# Altium schematic symbol library kmilo17pet-NSC_Switcher.SchLib: 2226 symbols (part 36 of 59)
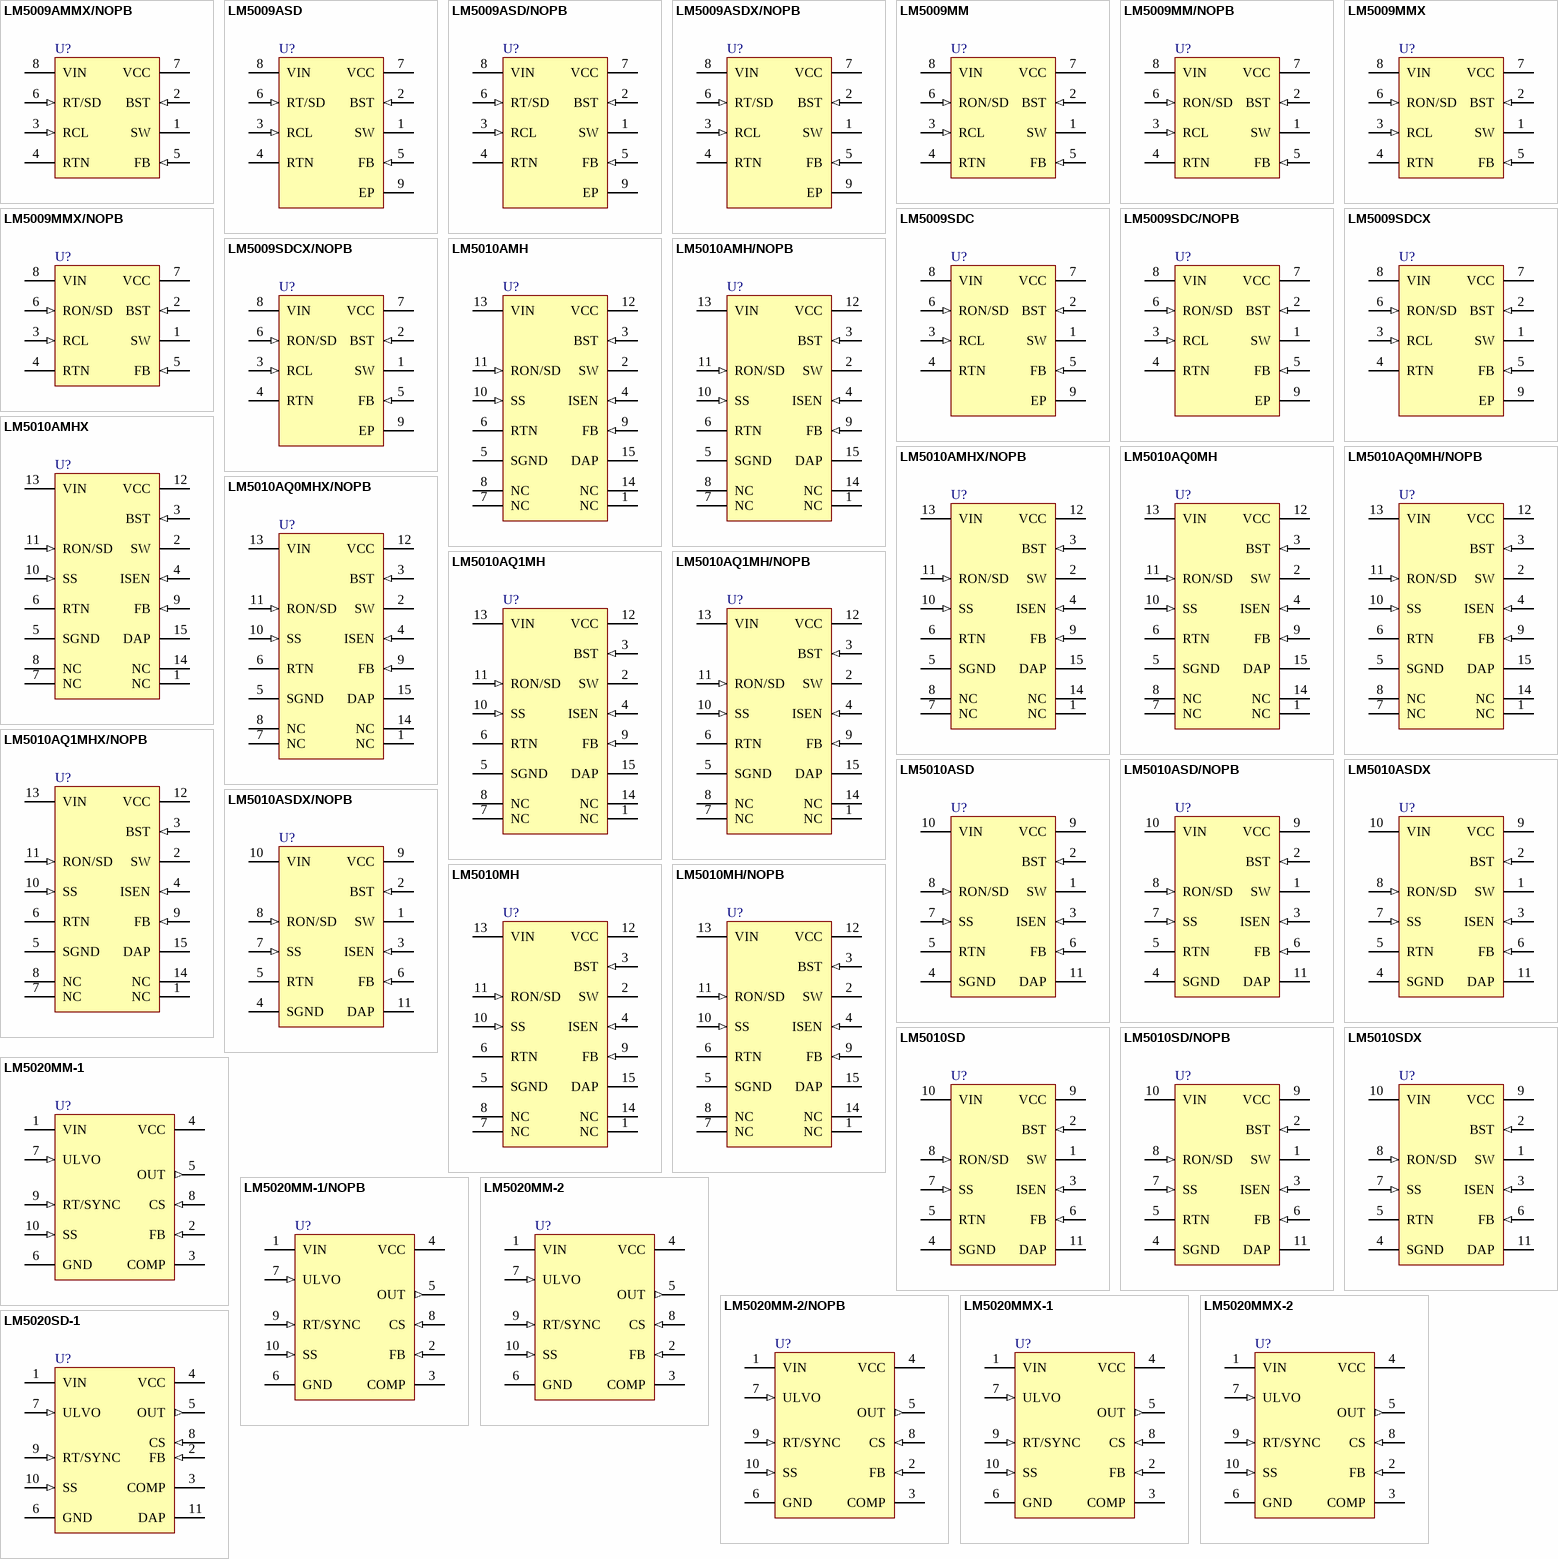
[diagram p104: symbols LM5009AMMX/NOPB to LM5020SD-1]

## LM5010SD/NOPB
designator U?
High Voltage 1A Step Down Switching Regulator, 10-pin LLP, Pb-Free; PartNumber: LM5010SD/NOPB; Manufacturer: National Semiconductor; PackageTopMarking: NS*UZXYTT*L00057B; PowerWise: N; CompType: Switcher; High-Reliability: Y; DatasheetVersion: Feb-2008; PackageVersion: revA, May-2003; PackageReference: SDC10A; PackageDescription: LLP, Plastic, Dual, 4 x 4 x 0.8mm Body, 10 Lead, 0.8mm Pitch, No Pullback; RoHS: Y; PinCount: 10; ComponentLink1Description: Manufacturer URL; ComponentLink1URL: http://www.national.com/; ComponentLink2Description: LM5010 Datasheet; ComponentLink2URL: http://www.national.com/ds/LM/LM5010.pdf; ComponentLink3Description: LM5010 Web Page; ComponentLink3URL: http://www.national.com/pf/LM/LM5010.html; ComponentLink4Description: SDC10A Package Page; ComponentLink4URL: http://www.national.com/packaging/folders/sdc10a.html
footprint SDC10A (SON, 10-Leads, Body 4x4 mm, Pitch 0.8mm, NSC Recommended)
pins: 1 SW (power), 2 BST (in), 3 ISEN (in), 4 SGND (power), 5 RTN (power), 6 FB (in), 7 SS (in), 8 RON/SD (in), 9 VCC (power), 10 VIN (power), 11 DAP (power)

## LM5010SDX
designator U?
High Voltage 1A Step Down Switching Regulator, 10-pin LLP; PartNumber: LM5010SDX; Manufacturer: National Semiconductor; PackageTopMarking: NS*UZXYTT*L00057B; PowerWise: N; CompType: Switcher; High-Reliability: Y; DatasheetVersion: Feb-2008; PackageVersion: revA, May-2003; PackageReference: SDC10A; PackageDescription: LLP, Plastic, Dual, 4 x 4 x 0.8mm Body, 10 Lead, 0.8mm Pitch, No Pullback; RoHS: N; PinCount: 10; ComponentLink1Description: Manufacturer URL; ComponentLink1URL: http://www.national.com/; ComponentLink2Description: LM5010 Datasheet; ComponentLink2URL: http://www.national.com/ds/LM/LM5010.pdf; ComponentLink3Description: LM5010 Web Page; ComponentLink3URL: http://www.national.com/pf/LM/LM5010.html; ComponentLink4Description: SDC10A Package Page; ComponentLink4URL: http://www.national.com/packaging/folders/sdc10a.html
footprint SDC10A (SON, 10-Leads, Body 4x4 mm, Pitch 0.8mm, NSC Recommended)
pins: 1 SW (power), 2 BST (in), 3 ISEN (in), 4 SGND (power), 5 RTN (power), 6 FB (in), 7 SS (in), 8 RON/SD (in), 9 VCC (power), 10 VIN (power), 11 DAP (power)

## LM5020MM-1
designator U?
100V Current Mode PWM Controller, 10-pin MSOP; PartNumber: LM5020MM-1; Manufacturer: National Semiconductor; PackageTopMarking: ZXTT*SBLB; PowerWise: Y; CompType: Switcher; DatasheetVersion: Apr-2006; PackageVersion: revB, Jul-2003; PackageReference: MUB10A; PackageDescription: Mini-SO, Molded, .118 x .118 x .034in Body, 10 Lead, .0197in Pitch; RoHS: N; PinCount: 10; High-Reliability: Y; Code_JEDEC: MO-187-BA; ComponentLink1Description: Manufacturer URL; ComponentLink1URL: http://www.national.com/; ComponentLink2Description: LM5020 Datasheet; ComponentLink2URL: http://www.national.com/ds/LM/LM5020.pdf; ComponentLink3Description: LM5020 Web Page; ComponentLink3URL: http://www.national.com/pf/LM/LM5020.html; ComponentLink4Description: MUB10A Package Page; ComponentLink4URL: http://www.national.com/packaging/folders/mub10a.html
footprint MUB10A_N (TSSOP, 10-Leads, Body 3x3mm, Pitch 0.5mm, IPC Medium Density)
footprint MUB10A_L (TSSOP, 10-Leads, Body 3x3mm, Pitch 0.5mm, IPC High Density)
footprint MUB10A_M (TSSOP, 10-Leads, Body 3x3mm, Pitch 0.5mm, IPC Low Density)
pins: 1 VIN (power), 2 FB (in), 3 COMP, 4 VCC (power), 5 OUT (out), 6 GND (power), 7 ULVO (in), 8 CS (in), 9 RT/SYNC (in), 10 SS (in)

## LM5020MM-1/NOPB
designator U?
100V Current Mode PWM Controller, 10-pin MSOP, Pb-Free; PartNumber: LM5020MM-1/NOPB; Manufacturer: National Semiconductor; PackageTopMarking: ZXTT*SBLB; PowerWise: Y; CompType: Switcher; DatasheetVersion: Apr-2006; PackageVersion: revB, Jul-2003; PackageReference: MUB10A; PackageDescription: Mini-SO, Molded, .118 x .118 x .034in Body, 10 Lead, .0197in Pitch; RoHS: Y; PinCount: 10; High-Reliability: Y; Code_JEDEC: MO-187-BA; ComponentLink1Description: Manufacturer URL; ComponentLink1URL: http://www.national.com/; ComponentLink2Description: LM5020 Datasheet; ComponentLink2URL: http://www.national.com/ds/LM/LM5020.pdf; ComponentLink3Description: LM5020 Web Page; ComponentLink3URL: http://www.national.com/pf/LM/LM5020.html; ComponentLink4Description: MUB10A Package Page; ComponentLink4URL: http://www.national.com/packaging/folders/mub10a.html
footprint MUB10A_N (TSSOP, 10-Leads, Body 3x3mm, Pitch 0.5mm, IPC Medium Density)
footprint MUB10A_L (TSSOP, 10-Leads, Body 3x3mm, Pitch 0.5mm, IPC High Density)
footprint MUB10A_M (TSSOP, 10-Leads, Body 3x3mm, Pitch 0.5mm, IPC Low Density)
pins: 1 VIN (power), 2 FB (in), 3 COMP, 4 VCC (power), 5 OUT (out), 6 GND (power), 7 ULVO (in), 8 CS (in), 9 RT/SYNC (in), 10 SS (in)

## LM5020MM-2
designator U?
100V Current Mode PWM Controller, 10-pin MSOP; PartNumber: LM5020MM-2; Manufacturer: National Semiconductor; PackageTopMarking: ZXTT*SBNB; PowerWise: Y; CompType: Switcher; DatasheetVersion: Apr-2006; PackageVersion: revB, Jul-2003; PackageReference: MUB10A; PackageDescription: Mini-SO, Molded, .118 x .118 x .034in Body, 10 Lead, .0197in Pitch; RoHS: N; PinCount: 10; High-Reliability: Y; Code_JEDEC: MO-187-BA; ComponentLink1Description: Manufacturer URL; ComponentLink1URL: http://www.national.com/; ComponentLink2Description: LM5020 Datasheet; ComponentLink2URL: http://www.national.com/ds/LM/LM5020.pdf; ComponentLink3Description: LM5020 Web Page; ComponentLink3URL: http://www.national.com/pf/LM/LM5020.html; ComponentLink4Description: MUB10A Package Page; ComponentLink4URL: http://www.national.com/packaging/folders/mub10a.html
footprint MUB10A_N (TSSOP, 10-Leads, Body 3x3mm, Pitch 0.5mm, IPC Medium Density)
footprint MUB10A_L (TSSOP, 10-Leads, Body 3x3mm, Pitch 0.5mm, IPC High Density)
footprint MUB10A_M (TSSOP, 10-Leads, Body 3x3mm, Pitch 0.5mm, IPC Low Density)
pins: 1 VIN (power), 2 FB (in), 3 COMP, 4 VCC (power), 5 OUT (out), 6 GND (power), 7 ULVO (in), 8 CS (in), 9 RT/SYNC (in), 10 SS (in)

## LM5020MM-2/NOPB
designator U?
100V Current Mode PWM Controller, 10-pin MSOP, Pb-Free; PartNumber: LM5020MM-2/NOPB; Manufacturer: National Semiconductor; PackageTopMarking: ZXTT*SBNB; PowerWise: Y; CompType: Switcher; DatasheetVersion: Apr-2006; PackageVersion: revB, Jul-2003; PackageReference: MUB10A; PackageDescription: Mini-SO, Molded, .118 x .118 x .034in Body, 10 Lead, .0197in Pitch; RoHS: Y; PinCount: 10; High-Reliability: Y; Code_JEDEC: MO-187-BA; ComponentLink1Description: Manufacturer URL; ComponentLink1URL: http://www.national.com/; ComponentLink2Description: LM5020 Datasheet; ComponentLink2URL: http://www.national.com/ds/LM/LM5020.pdf; ComponentLink3Description: LM5020 Web Page; ComponentLink3URL: http://www.national.com/pf/LM/LM5020.html; ComponentLink4Description: MUB10A Package Page; ComponentLink4URL: http://www.national.com/packaging/folders/mub10a.html
footprint MUB10A_N (TSSOP, 10-Leads, Body 3x3mm, Pitch 0.5mm, IPC Medium Density)
footprint MUB10A_L (TSSOP, 10-Leads, Body 3x3mm, Pitch 0.5mm, IPC High Density)
footprint MUB10A_M (TSSOP, 10-Leads, Body 3x3mm, Pitch 0.5mm, IPC Low Density)
pins: 1 VIN (power), 2 FB (in), 3 COMP, 4 VCC (power), 5 OUT (out), 6 GND (power), 7 ULVO (in), 8 CS (in), 9 RT/SYNC (in), 10 SS (in)

## LM5020MMX-1
designator U?
100V Current Mode PWM Controller, 10-pin MSOP; PartNumber: LM5020MMX-1; Manufacturer: National Semiconductor; PackageTopMarking: ZXTT*SBLB; PowerWise: Y; CompType: Switcher; DatasheetVersion: Apr-2006; PackageVersion: revB, Jul-2003; PackageReference: MUB10A; PackageDescription: Mini-SO, Molded, .118 x .118 x .034in Body, 10 Lead, .0197in Pitch; RoHS: N; PinCount: 10; High-Reliability: Y; Code_JEDEC: MO-187-BA; ComponentLink1Description: Manufacturer URL; ComponentLink1URL: http://www.national.com/; ComponentLink2Description: LM5020 Datasheet; ComponentLink2URL: http://www.national.com/ds/LM/LM5020.pdf; ComponentLink3Description: LM5020 Web Page; ComponentLink3URL: http://www.national.com/pf/LM/LM5020.html; ComponentLink4Description: MUB10A Package Page; ComponentLink4URL: http://www.national.com/packaging/folders/mub10a.html
footprint MUB10A_N (TSSOP, 10-Leads, Body 3x3mm, Pitch 0.5mm, IPC Medium Density)
footprint MUB10A_L (TSSOP, 10-Leads, Body 3x3mm, Pitch 0.5mm, IPC High Density)
footprint MUB10A_M (TSSOP, 10-Leads, Body 3x3mm, Pitch 0.5mm, IPC Low Density)
pins: 1 VIN (power), 2 FB (in), 3 COMP, 4 VCC (power), 5 OUT (out), 6 GND (power), 7 ULVO (in), 8 CS (in), 9 RT/SYNC (in), 10 SS (in)

## LM5020MMX-2
designator U?
100V Current Mode PWM Controller, 10-pin MSOP; PartNumber: LM5020MMX-2; Manufacturer: National Semiconductor; PackageTopMarking: ZXTT*SBNB; PowerWise: Y; CompType: Switcher; DatasheetVersion: Apr-2006; PackageVersion: revB, Jul-2003; PackageReference: MUB10A; PackageDescription: Mini-SO, Molded, .118 x .118 x .034in Body, 10 Lead, .0197in Pitch; RoHS: N; PinCount: 10; High-Reliability: Y; Code_JEDEC: MO-187-BA; ComponentLink1Description: Manufacturer URL; ComponentLink1URL: http://www.national.com/; ComponentLink2Description: LM5020 Datasheet; ComponentLink2URL: http://www.national.com/ds/LM/LM5020.pdf; ComponentLink3Description: LM5020 Web Page; ComponentLink3URL: http://www.national.com/pf/LM/LM5020.html; ComponentLink4Description: MUB10A Package Page; ComponentLink4URL: http://www.national.com/packaging/folders/mub10a.html
footprint MUB10A_N (TSSOP, 10-Leads, Body 3x3mm, Pitch 0.5mm, IPC Medium Density)
footprint MUB10A_L (TSSOP, 10-Leads, Body 3x3mm, Pitch 0.5mm, IPC High Density)
footprint MUB10A_M (TSSOP, 10-Leads, Body 3x3mm, Pitch 0.5mm, IPC Low Density)
pins: 1 VIN (power), 2 FB (in), 3 COMP, 4 VCC (power), 5 OUT (out), 6 GND (power), 7 ULVO (in), 8 CS (in), 9 RT/SYNC (in), 10 SS (in)

## LM5020SD-1
designator U?
100V Current Mode PWM Controller, 10-pin LLP; PartNumber: LM5020SD-1; Manufacturer: National Semiconductor; PackageTopMarking: NS*UZXYTT*5020-1; PowerWise: Y; CompType: Switcher; DatasheetVersion: Apr-2006; PackageVersion: revA, May-2003; PackageReference: SDC10A; PackageDescription: LLP, Plastic, Dual, 4 x 4 x 0.8mm Body, 10 Lead, 0.8mm Pitch, No Pullback; RoHS: N; PinCount: 10; High-Reliability: Y; ComponentLink1Description: Manufacturer URL; ComponentLink1URL: http://www.national.com/; ComponentLink2Description: LM5020 Datasheet; ComponentLink2URL: http://www.national.com/ds/LM/LM5020.pdf; ComponentLink3Description: LM5020 Web Page; ComponentLink3URL: http://www.national.com/pf/LM/LM5020.html; ComponentLink4Description: SDC10A Package Page; ComponentLink4URL: http://www.national.com/packaging/folders/sdc10a.html
footprint SDC10A (SON, 10-Leads, Body 4x4 mm, Pitch 0.8mm, NSC Recommended)
pins: 1 VIN (power), 2 FB (in), 3 COMP, 4 VCC (power), 5 OUT (out), 6 GND (power), 7 ULVO (in), 8 CS (in), 9 RT/SYNC (in), 10 SS (in), 11 DAP (power)

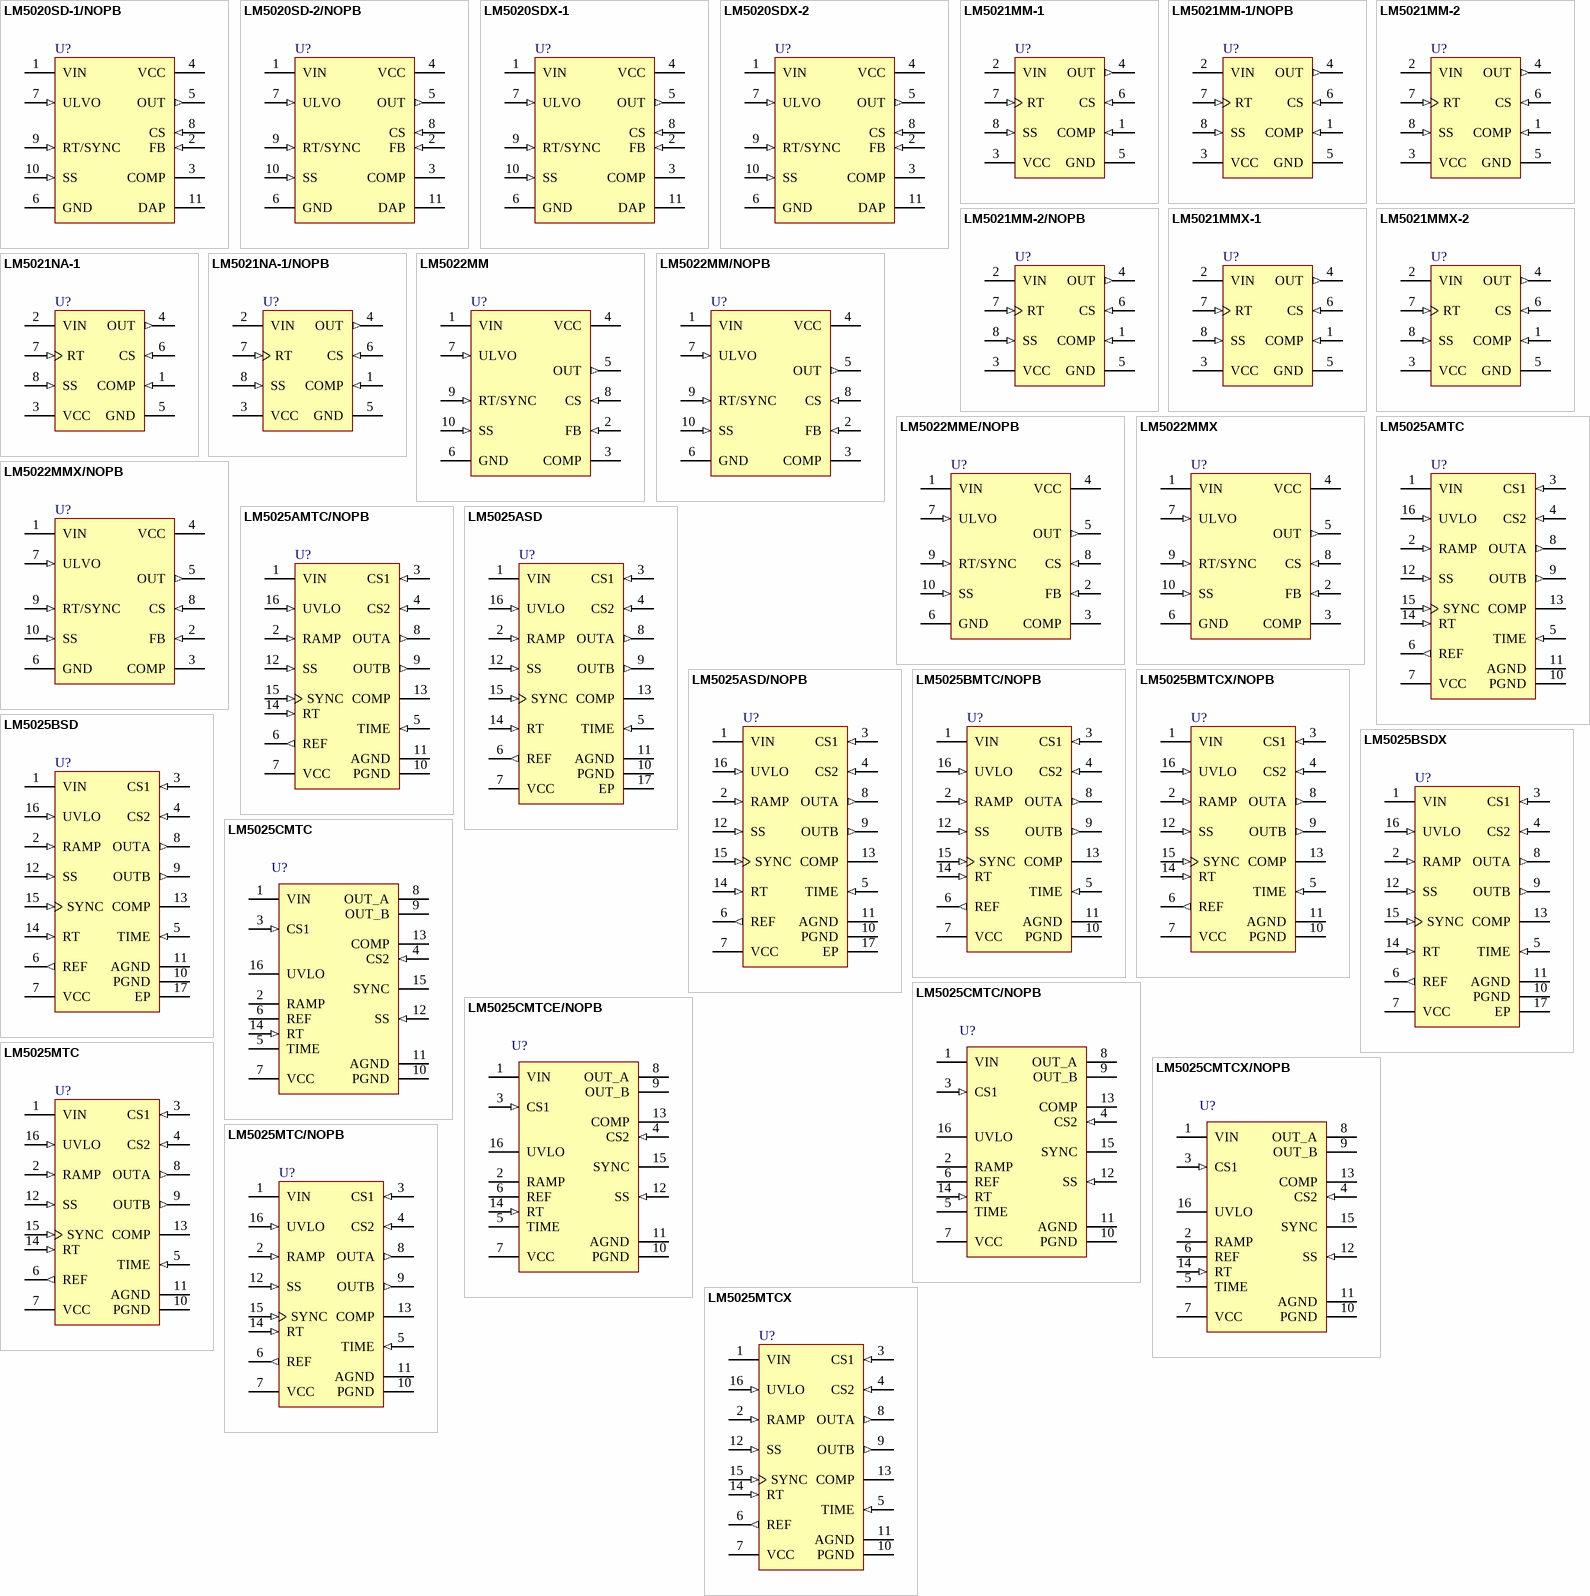
[diagram p39: symbols LM5020SD-1/NOPB to LM5025MTCX]

## LM5020SD-1/NOPB
designator U?
100V Current Mode PWM Controller, 10-pin LLP, Pb-Free; PartNumber: LM5020SD-1/NOPB; Manufacturer: National Semiconductor; PackageTopMarking: NS*UZXYTT*5020-1; PowerWise: Y; CompType: Switcher; DatasheetVersion: Apr-2006; PackageVersion: revA, May-2003; PackageReference: SDC10A; PackageDescription: LLP, Plastic, Dual, 4 x 4 x 0.8mm Body, 10 Lead, 0.8mm Pitch, No Pullback; RoHS: Y; PinCount: 10; High-Reliability: Y; ComponentLink1Description: Manufacturer URL; ComponentLink1URL: http://www.national.com/; ComponentLink2Description: LM5020 Datasheet; ComponentLink2URL: http://www.national.com/ds/LM/LM5020.pdf; ComponentLink3Description: LM5020 Web Page; ComponentLink3URL: http://www.national.com/pf/LM/LM5020.html; ComponentLink4Description: SDC10A Package Page; ComponentLink4URL: http://www.national.com/packaging/folders/sdc10a.html
footprint SDC10A (SON, 10-Leads, Body 4x4 mm, Pitch 0.8mm, NSC Recommended)
pins: 1 VIN (power), 2 FB (in), 3 COMP, 4 VCC (power), 5 OUT (out), 6 GND (power), 7 ULVO (in), 8 CS (in), 9 RT/SYNC (in), 10 SS (in), 11 DAP (power)

## LM5020SD-2/NOPB
designator U?
100V Current Mode PWM Controller, 10-pin LLP, Pb-Free; PartNumber: LM5020SD-2/NOPB; Manufacturer: National Semiconductor; PackageTopMarking: NS*UZXYTT*5020-2; PowerWise: Y; CompType: Switcher; DatasheetVersion: Apr-2006; PackageVersion: revA, May-2003; PackageReference: SDC10A; PackageDescription: LLP, Plastic, Dual, 4 x 4 x 0.8mm Body, 10 Lead, 0.8mm Pitch, No Pullback; RoHS: Y; PinCount: 10; High-Reliability: Y; ComponentLink1Description: Manufacturer URL; ComponentLink1URL: http://www.national.com/; ComponentLink2Description: LM5020 Datasheet; ComponentLink2URL: http://www.national.com/ds/LM/LM5020.pdf; ComponentLink3Description: LM5020 Web Page; ComponentLink3URL: http://www.national.com/pf/LM/LM5020.html; ComponentLink4Description: SDC10A Package Page; ComponentLink4URL: http://www.national.com/packaging/folders/sdc10a.html
footprint SDC10A (SON, 10-Leads, Body 4x4 mm, Pitch 0.8mm, NSC Recommended)
pins: 1 VIN (power), 2 FB (in), 3 COMP, 4 VCC (power), 5 OUT (out), 6 GND (power), 7 ULVO (in), 8 CS (in), 9 RT/SYNC (in), 10 SS (in), 11 DAP (power)

## LM5020SDX-1
designator U?
100V Current Mode PWM Controller, 10-pin LLP; PartNumber: LM5020SDX-1; Manufacturer: National Semiconductor; PackageTopMarking: NS*UZXYTT*5020-1; PowerWise: Y; CompType: Switcher; DatasheetVersion: Apr-2006; PackageVersion: revA, May-2003; PackageReference: SDC10A; PackageDescription: LLP, Plastic, Dual, 4 x 4 x 0.8mm Body, 10 Lead, 0.8mm Pitch, No Pullback; RoHS: N; PinCount: 10; High-Reliability: Y; ComponentLink1Description: Manufacturer URL; ComponentLink1URL: http://www.national.com/; ComponentLink2Description: LM5020 Datasheet; ComponentLink2URL: http://www.national.com/ds/LM/LM5020.pdf; ComponentLink3Description: LM5020 Web Page; ComponentLink3URL: http://www.national.com/pf/LM/LM5020.html; ComponentLink4Description: SDC10A Package Page; ComponentLink4URL: http://www.national.com/packaging/folders/sdc10a.html
footprint SDC10A (SON, 10-Leads, Body 4x4 mm, Pitch 0.8mm, NSC Recommended)
pins: 1 VIN (power), 2 FB (in), 3 COMP, 4 VCC (power), 5 OUT (out), 6 GND (power), 7 ULVO (in), 8 CS (in), 9 RT/SYNC (in), 10 SS (in), 11 DAP (power)

## LM5020SDX-2
designator U?
100V Current Mode PWM Controller, 10-pin LLP; PartNumber: LM5020SDX-2; Manufacturer: National Semiconductor; PackageTopMarking: NS*UZXYTT*5020-2; PowerWise: Y; CompType: Switcher; DatasheetVersion: Apr-2006; PackageVersion: revA, May-2003; PackageReference: SDC10A; PackageDescription: LLP, Plastic, Dual, 4 x 4 x 0.8mm Body, 10 Lead, 0.8mm Pitch, No Pullback; RoHS: N; PinCount: 10; High-Reliability: Y; ComponentLink1Description: Manufacturer URL; ComponentLink1URL: http://www.national.com/; ComponentLink2Description: LM5020 Datasheet; ComponentLink2URL: http://www.national.com/ds/LM/LM5020.pdf; ComponentLink3Description: LM5020 Web Page; ComponentLink3URL: http://www.national.com/pf/LM/LM5020.html; ComponentLink4Description: SDC10A Package Page; ComponentLink4URL: http://www.national.com/packaging/folders/sdc10a.html
footprint SDC10A (SON, 10-Leads, Body 4x4 mm, Pitch 0.8mm, NSC Recommended)
pins: 1 VIN (power), 2 FB (in), 3 COMP, 4 VCC (power), 5 OUT (out), 6 GND (power), 7 ULVO (in), 8 CS (in), 9 RT/SYNC (in), 10 SS (in), 11 DAP (power)

## LM5021MM-1
designator U?
AC-DC Current Mode PWM Controller, 8-pin MSOP; PartNumber: LM5021MM-1; Manufacturer: National Semiconductor; PackageTopMarking: ZXTT*21-1; PowerWise: N; CompType: Switcher; High-Reliability: Y; DatasheetVersion: Jun-2006; PackageVersion: revF, Apr-2008; PackageReference: MUA08A; PackageDescription: MINI SOIC, .118 x .118 x .034in, 8 Lead, .0256in Pitch; RoHS: N; PinCount: 8; Code_JEDEC: MO-187-AA; ComponentLink1Description: Manufacturer URL; ComponentLink1URL: http://www.national.com/; ComponentLink2Description: LM5021 Datasheet; ComponentLink2URL: http://www.national.com/ds/LM/LM5021.pdf; ComponentLink3Description: LM5021 Web Page; ComponentLink3URL: http://www.national.com/pf/LM/LM5021.html; ComponentLink4Description: MUA08A Package Page; ComponentLink4URL: http://www.national.com/packaging/folders/mua08a.html
footprint MUA08A_N (TSOP, 8-Leads, Body 3x3mm, Pitch 0.65mm, IPC Medium Density)
footprint MUA08A_L (TSOP, 8-Leads, Body 3x3mm, Pitch 0.65mm, IPC High Density)
footprint MUA08A_M (TSOP, 8-Leads, Body 3x3mm, Pitch 0.65mm, IPC Low Density)
pins: 1 COMP (in), 2 VIN (power), 3 VCC (power), 4 OUT (out), 5 GND (power), 6 CS (in), 7 RT (in), 8 SS (in)

## LM5021MM-1/NOPB
designator U?
AC-DC Current Mode PWM Controller, 8-pin MSOP, Pb-Free; PartNumber: LM5021MM-1/NOPB; Manufacturer: National Semiconductor; PackageTopMarking: ZXTT*21-1; PowerWise: N; CompType: Switcher; High-Reliability: Y; DatasheetVersion: Jun-2006; PackageVersion: revF, Apr-2008; PackageReference: MUA08A; PackageDescription: MINI SOIC, .118 x .118 x .034in, 8 Lead, .0256in Pitch; RoHS: Y; PinCount: 8; Code_JEDEC: MO-187-AA; ComponentLink1Description: Manufacturer URL; ComponentLink1URL: http://www.national.com/; ComponentLink2Description: LM5021 Datasheet; ComponentLink2URL: http://www.national.com/ds/LM/LM5021.pdf; ComponentLink3Description: LM5021 Web Page; ComponentLink3URL: http://www.national.com/pf/LM/LM5021.html; ComponentLink4Description: MUA08A Package Page; ComponentLink4URL: http://www.national.com/packaging/folders/mua08a.html
footprint MUA08A_N (TSOP, 8-Leads, Body 3x3mm, Pitch 0.65mm, IPC Medium Density)
footprint MUA08A_L (TSOP, 8-Leads, Body 3x3mm, Pitch 0.65mm, IPC High Density)
footprint MUA08A_M (TSOP, 8-Leads, Body 3x3mm, Pitch 0.65mm, IPC Low Density)
pins: 1 COMP (in), 2 VIN (power), 3 VCC (power), 4 OUT (out), 5 GND (power), 6 CS (in), 7 RT (in), 8 SS (in)

## LM5021MM-2
designator U?
AC-DC Current Mode PWM Controller, 8-pin MSOP; PartNumber: LM5021MM-2; Manufacturer: National Semiconductor; PackageTopMarking: ZXTT*21-2; PowerWise: N; CompType: Switcher; High-Reliability: Y; DatasheetVersion: Jun-2006; PackageVersion: revF, Apr-2008; PackageReference: MUA08A; PackageDescription: MINI SOIC, .118 x .118 x .034in, 8 Lead, .0256in Pitch; RoHS: N; PinCount: 8; Code_JEDEC: MO-187-AA; ComponentLink1Description: Manufacturer URL; ComponentLink1URL: http://www.national.com/; ComponentLink2Description: LM5021 Datasheet; ComponentLink2URL: http://www.national.com/ds/LM/LM5021.pdf; ComponentLink3Description: LM5021 Web Page; ComponentLink3URL: http://www.national.com/pf/LM/LM5021.html; ComponentLink4Description: MUA08A Package Page; ComponentLink4URL: http://www.national.com/packaging/folders/mua08a.html
footprint MUA08A_N (TSOP, 8-Leads, Body 3x3mm, Pitch 0.65mm, IPC Medium Density)
footprint MUA08A_L (TSOP, 8-Leads, Body 3x3mm, Pitch 0.65mm, IPC High Density)
footprint MUA08A_M (TSOP, 8-Leads, Body 3x3mm, Pitch 0.65mm, IPC Low Density)
pins: 1 COMP (in), 2 VIN (power), 3 VCC (power), 4 OUT (out), 5 GND (power), 6 CS (in), 7 RT (in), 8 SS (in)

## LM5021MM-2/NOPB
designator U?
AC-DC Current Mode PWM Controller, 8-pin MSOP, Pb-Free; PartNumber: LM5021MM-2/NOPB; Manufacturer: National Semiconductor; PackageTopMarking: ZXTT*21-2; PowerWise: N; CompType: Switcher; High-Reliability: Y; DatasheetVersion: Jun-2006; PackageVersion: revF, Apr-2008; PackageReference: MUA08A; PackageDescription: MINI SOIC, .118 x .118 x .034in, 8 Lead, .0256in Pitch; RoHS: Y; PinCount: 8; Code_JEDEC: MO-187-AA; ComponentLink1Description: Manufacturer URL; ComponentLink1URL: http://www.national.com/; ComponentLink2Description: LM5021 Datasheet; ComponentLink2URL: http://www.national.com/ds/LM/LM5021.pdf; ComponentLink3Description: LM5021 Web Page; ComponentLink3URL: http://www.national.com/pf/LM/LM5021.html; ComponentLink4Description: MUA08A Package Page; ComponentLink4URL: http://www.national.com/packaging/folders/mua08a.html
footprint MUA08A_N (TSOP, 8-Leads, Body 3x3mm, Pitch 0.65mm, IPC Medium Density)
footprint MUA08A_L (TSOP, 8-Leads, Body 3x3mm, Pitch 0.65mm, IPC High Density)
footprint MUA08A_M (TSOP, 8-Leads, Body 3x3mm, Pitch 0.65mm, IPC Low Density)
pins: 1 COMP (in), 2 VIN (power), 3 VCC (power), 4 OUT (out), 5 GND (power), 6 CS (in), 7 RT (in), 8 SS (in)

## LM5021MMX-1
designator U?
AC-DC Current Mode PWM Controller, 8-pin MSOP; PartNumber: LM5021MMX-1; Manufacturer: National Semiconductor; PackageTopMarking: ZXTT*21-1; PowerWise: N; CompType: Switcher; High-Reliability: Y; DatasheetVersion: Jun-2006; PackageVersion: revF, Apr-2008; PackageReference: MUA08A; PackageDescription: MINI SOIC, .118 x .118 x .034in, 8 Lead, .0256in Pitch; RoHS: N; PinCount: 8; Code_JEDEC: MO-187-AA; ComponentLink1Description: Manufacturer URL; ComponentLink1URL: http://www.national.com/; ComponentLink2Description: LM5021 Datasheet; ComponentLink2URL: http://www.national.com/ds/LM/LM5021.pdf; ComponentLink3Description: LM5021 Web Page; ComponentLink3URL: http://www.national.com/pf/LM/LM5021.html; ComponentLink4Description: MUA08A Package Page; ComponentLink4URL: http://www.national.com/packaging/folders/mua08a.html
footprint MUA08A_N (TSOP, 8-Leads, Body 3x3mm, Pitch 0.65mm, IPC Medium Density)
footprint MUA08A_L (TSOP, 8-Leads, Body 3x3mm, Pitch 0.65mm, IPC High Density)
footprint MUA08A_M (TSOP, 8-Leads, Body 3x3mm, Pitch 0.65mm, IPC Low Density)
pins: 1 COMP (in), 2 VIN (power), 3 VCC (power), 4 OUT (out), 5 GND (power), 6 CS (in), 7 RT (in), 8 SS (in)

## LM5021MMX-2
designator U?
AC-DC Current Mode PWM Controller, 8-pin MSOP; PartNumber: LM5021MMX-2; Manufacturer: National Semiconductor; PackageTopMarking: ZXTT*21-2; PowerWise: N; CompType: Switcher; High-Reliability: Y; DatasheetVersion: Jun-2006; PackageVersion: revF, Apr-2008; PackageReference: MUA08A; PackageDescription: MINI SOIC, .118 x .118 x .034in, 8 Lead, .0256in Pitch; RoHS: N; PinCount: 8; Code_JEDEC: MO-187-AA; ComponentLink1Description: Manufacturer URL; ComponentLink1URL: http://www.national.com/; ComponentLink2Description: LM5021 Datasheet; ComponentLink2URL: http://www.national.com/ds/LM/LM5021.pdf; ComponentLink3Description: LM5021 Web Page; ComponentLink3URL: http://www.national.com/pf/LM/LM5021.html; ComponentLink4Description: MUA08A Package Page; ComponentLink4URL: http://www.national.com/packaging/folders/mua08a.html
footprint MUA08A_N (TSOP, 8-Leads, Body 3x3mm, Pitch 0.65mm, IPC Medium Density)
footprint MUA08A_L (TSOP, 8-Leads, Body 3x3mm, Pitch 0.65mm, IPC High Density)
footprint MUA08A_M (TSOP, 8-Leads, Body 3x3mm, Pitch 0.65mm, IPC Low Density)
pins: 1 COMP (in), 2 VIN (power), 3 VCC (power), 4 OUT (out), 5 GND (power), 6 CS (in), 7 RT (in), 8 SS (in)

## LM5021NA-1
designator U?
AC-DC Current Mode PWM Controller, 8-pin MDIP; PartNumber: LM5021NA-1; Manufacturer: National Semiconductor; PackageTopMarking: NSUZXYTTE#*LM5021NA*-1; PowerWise: N; CompType: Switcher; High-Reliability: Y; DatasheetVersion: Jun-2006; PackageVersion: revG, May-2006; PackageReference: N08E; PackageDescription: MDIP, .365 x .250 x .130in, 8 Lead, .100in Pitch; RoHS: N; PinCount: 8; Code_JEDEC: MS-001-BA; ComponentLink1Description: Manufacturer URL; ComponentLink1URL: http://www.national.com/; ComponentLink2Description: LM5021 Datasheet; ComponentLink2URL: http://www.national.com/ds/LM/LM5021.pdf; ComponentLink3Description: LM5021 Web Page; ComponentLink3URL: http://www.national.com/pf/LM/LM5021.html; ComponentLink4Description: N08E Package Page; ComponentLink4URL: http://www.national.com/packaging/folders/n08e.html
footprint N08E (DIP, 8-Leads, Row Spacing 7.62mm, Pitch 2.54mm, Body 9.91x6.35mm)
pins: 1 COMP (in), 2 VIN (power), 3 VCC (power), 4 OUT (out), 5 GND (power), 6 CS (in), 7 RT (in), 8 SS (in)

## LM5021NA-1/NOPB
designator U?
AC-DC Current Mode PWM Controller, 8-pin MDIP, Pb-Free; PartNumber: LM5021NA-1/NOPB; Manufacturer: National Semiconductor; PackageTopMarking: NSUZXYTTE#*LM5021NA*-1; PowerWise: N; CompType: Switcher; High-Reliability: Y; DatasheetVersion: Jun-2006; PackageVersion: revG, May-2006; PackageReference: N08E; PackageDescription: MDIP, .365 x .250 x .130in, 8 Lead, .100in Pitch; RoHS: Y; PinCount: 8; Code_JEDEC: MS-001-BA; ComponentLink1Description: Manufacturer URL; ComponentLink1URL: http://www.national.com/; ComponentLink2Description: LM5021 Datasheet; ComponentLink2URL: http://www.national.com/ds/LM/LM5021.pdf; ComponentLink3Description: LM5021 Web Page; ComponentLink3URL: http://www.national.com/pf/LM/LM5021.html; ComponentLink4Description: N08E Package Page; ComponentLink4URL: http://www.national.com/packaging/folders/n08e.html
footprint N08E (DIP, 8-Leads, Row Spacing 7.62mm, Pitch 2.54mm, Body 9.91x6.35mm)
pins: 1 COMP (in), 2 VIN (power), 3 VCC (power), 4 OUT (out), 5 GND (power), 6 CS (in), 7 RT (in), 8 SS (in)

## LM5022MM
designator U?
60V Low Side Controller for Boost and SEPIC, 10-pin MSOP; PartNumber: LM5022MM; Manufacturer: National Semiconductor; PackageTopMarking: ZXTT*5022; PowerWise: Y; CompType: Switcher; DatasheetVersion: Aug-2007; PackageVersion: revB, Jul-2003; PackageReference: MUB10A; PackageDescription: Mini-SO, Molded, .118 x .118 x .034in Body, 10 Lead, .0197in Pitch; RoHS: N; PinCount: 10; High-Reliability: Y; Code_JEDEC: MO-187-BA; ComponentLink1Description: Manufacturer URL; ComponentLink1URL: http://www.national.com/; ComponentLink2Description: LM5022 Datasheet; ComponentLink2URL: http://www.national.com/ds/LM/LM5022.pdf; ComponentLink3Description: LM5022 Web Page; ComponentLink3URL: http://www.national.com/pf/LM/LM5022.html; ComponentLink4Description: MUB10A Package Page; ComponentLink4URL: http://www.national.com/packaging/folders/mub10a.html
footprint MUB10A_N (TSSOP, 10-Leads, Body 3x3mm, Pitch 0.5mm, IPC Medium Density)
footprint MUB10A_L (TSSOP, 10-Leads, Body 3x3mm, Pitch 0.5mm, IPC High Density)
footprint MUB10A_M (TSSOP, 10-Leads, Body 3x3mm, Pitch 0.5mm, IPC Low Density)
pins: 1 VIN (power), 2 FB (in), 3 COMP, 4 VCC (power), 5 OUT (out), 6 GND (power), 7 ULVO (in), 8 CS (in), 9 RT/SYNC (in), 10 SS (in)

## LM5022MM/NOPB
designator U?
60V Low Side Controller for Boost and SEPIC, 10-pin MSOP, Pb-Free; PartNumber: LM5022MM/NOPB; Manufacturer: National Semiconductor; PackageTopMarking: ZXTT*5022; PowerWise: Y; CompType: Switcher; DatasheetVersion: Oct-2009; PackageVersion: revB, Jul-2003; PackageReference: MUB10A; PackageDescription: Mini-SO, Molded, .118 x .118 x .034in Body, 10 Lead, .0197in Pitch; RoHS: Y; PinCount: 10; High-Reliability: Y; Code_JEDEC: MO-187-BA; ComponentLink1Description: Manufacturer URL; ComponentLink1URL: http://www.national.com/; ComponentLink2Description: LM5022 Datasheet; ComponentLink2URL: http://www.national.com/ds/LM/LM5022.pdf; ComponentLink3Description: LM5022 Web Page; ComponentLink3URL: http://www.national.com/pf/LM/LM5022.html; ComponentLink4Description: MUB10A Package Page; ComponentLink4URL: http://www.national.com/packaging/folders/mub10a.html
footprint MUB10A_N (TSSOP, 10-Leads, Body 3x3mm, Pitch 0.5mm, IPC Medium Density)
footprint MUB10A_L (TSSOP, 10-Leads, Body 3x3mm, Pitch 0.5mm, IPC High Density)
footprint MUB10A_M (TSSOP, 10-Leads, Body 3x3mm, Pitch 0.5mm, IPC Low Density)
pins: 1 VIN (power), 2 FB (in), 3 COMP, 4 VCC (power), 5 OUT (out), 6 GND (power), 7 ULVO (in), 8 CS (in), 9 RT/SYNC (in), 10 SS (in)

## LM5022MME/NOPB
designator U?
60V Low Side Controller for Boost and SEPIC, 10-pin MSOP, Pb-Free; PartNumber: LM5022MME/NOPB; Manufacturer: National Semiconductor; PackageTopMarking: ZXTT*5022; PowerWise: Y; CompType: Switcher; DatasheetVersion: Oct-2009; PackageVersion: revB, Jul-2003; PackageReference: MUB10A; PackageDescription: Mini-SO, Molded, .118 x .118 x .034in Body, 10 Lead, .0197in Pitch; RoHS: Y; PinCount: 10; High-Reliability: Y; Code_JEDEC: MO-187-BA; ComponentLink1Description: Manufacturer URL; ComponentLink1URL: http://www.national.com/; ComponentLink2Description: LM5022 Datasheet; ComponentLink2URL: http://www.national.com/ds/LM/LM5022.pdf; ComponentLink3Description: LM5022 Web Page; ComponentLink3URL: http://www.national.com/pf/LM/LM5022.html; ComponentLink4Description: MUB10A Package Page; ComponentLink4URL: http://www.national.com/packaging/folders/mub10a.html
footprint MUB10A_N (TSSOP, 10-Leads, Body 3x3mm, Pitch 0.5mm, IPC Medium Density)
footprint MUB10A_L (TSSOP, 10-Leads, Body 3x3mm, Pitch 0.5mm, IPC High Density)
footprint MUB10A_M (TSSOP, 10-Leads, Body 3x3mm, Pitch 0.5mm, IPC Low Density)
pins: 1 VIN (power), 2 FB (in), 3 COMP, 4 VCC (power), 5 OUT (out), 6 GND (power), 7 ULVO (in), 8 CS (in), 9 RT/SYNC (in), 10 SS (in)

## LM5022MMX
designator U?
60V Low Side Controller for Boost and SEPIC, 10-pin MSOP; PartNumber: LM5022MMX; Manufacturer: National Semiconductor; PackageTopMarking: ZXTT*5022; PowerWise: Y; CompType: Switcher; DatasheetVersion: Oct-2009; PackageVersion: revB, Jul-2003; PackageReference: MUB10A; PackageDescription: Mini-SO, Molded, .118 x .118 x .034in Body, 10 Lead, .0197in Pitch; RoHS: N; PinCount: 10; High-Reliability: Y; Code_JEDEC: MO-187-BA; ComponentLink1Description: Manufacturer URL; ComponentLink1URL: http://www.national.com/; ComponentLink2Description: LM5022 Datasheet; ComponentLink2URL: http://www.national.com/ds/LM/LM5022.pdf; ComponentLink3Description: LM5022 Web Page; ComponentLink3URL: http://www.national.com/pf/LM/LM5022.html; ComponentLink4Description: MUB10A Package Page; ComponentLink4URL: http://www.national.com/packaging/folders/mub10a.html
footprint MUB10A_N (TSSOP, 10-Leads, Body 3x3mm, Pitch 0.5mm, IPC Medium Density)
footprint MUB10A_L (TSSOP, 10-Leads, Body 3x3mm, Pitch 0.5mm, IPC High Density)
footprint MUB10A_M (TSSOP, 10-Leads, Body 3x3mm, Pitch 0.5mm, IPC Low Density)
pins: 1 VIN (power), 2 FB (in), 3 COMP, 4 VCC (power), 5 OUT (out), 6 GND (power), 7 ULVO (in), 8 CS (in), 9 RT/SYNC (in), 10 SS (in)

## LM5022MMX/NOPB
designator U?
60V Low Side Controller for Boost and SEPIC, 10-pin MSOP, Pb-Free; PartNumber: LM5022MMX/NOPB; Manufacturer: National Semiconductor; PackageTopMarking: ZXTT*5022; PowerWise: Y; CompType: Switcher; DatasheetVersion: Oct-2009; PackageVersion: revB, Jul-2003; PackageReference: MUB10A; PackageDescription: Mini-SO, Molded, .118 x .118 x .034in Body, 10 Lead, .0197in Pitch; RoHS: Y; PinCount: 10; High-Reliability: Y; Code_JEDEC: MO-187-BA; ComponentLink1Description: Manufacturer URL; ComponentLink1URL: http://www.national.com/; ComponentLink2Description: LM5022 Datasheet; ComponentLink2URL: http://www.national.com/ds/LM/LM5022.pdf; ComponentLink3Description: LM5022 Web Page; ComponentLink3URL: http://www.national.com/pf/LM/LM5022.html; ComponentLink4Description: MUB10A Package Page; ComponentLink4URL: http://www.national.com/packaging/folders/mub10a.html
footprint MUB10A_N (TSSOP, 10-Leads, Body 3x3mm, Pitch 0.5mm, IPC Medium Density)
footprint MUB10A_L (TSSOP, 10-Leads, Body 3x3mm, Pitch 0.5mm, IPC High Density)
footprint MUB10A_M (TSSOP, 10-Leads, Body 3x3mm, Pitch 0.5mm, IPC Low Density)
pins: 1 VIN (power), 2 FB (in), 3 COMP, 4 VCC (power), 5 OUT (out), 6 GND (power), 7 ULVO (in), 8 CS (in), 9 RT/SYNC (in), 10 SS (in)

## LM5025AMTC
designator U?
Active Clamp Voltage Mode PWM Controller, 16-pin TSSOP; PartNumber: LM5025AMTC; Manufacturer: National Semiconductor; PackageTopMarking: NSUZXYTT*L5025A*MTC; PowerWise: Y; CompType: Switcher; DatasheetVersion: Dec-2004; PackageVersion: revD, Jun-2003; PackageReference: MTC16; PackageDescription: Molded TSSOP, Jedec, 5 x 4.4 x 0.9mm Body, 16 Lead, 0.65mm Pitch; RoHS: N; PinCount: 16; High-Reliability: Y; Code_JEDEC: MO-153-AB; ComponentLink1Description: Manufacturer URL; ComponentLink1URL: http://www.national.com/; ComponentLink2Description: LM5025A Datasheet; ComponentLink2URL: http://www.national.com/ds/LM/LM5025A.pdf; ComponentLink3Description: LM5025A Web Page; ComponentLink3URL: http://www.national.com/pf/LM/LM5025A.html; ComponentLink4Description: MTC16 Package Page; ComponentLink4URL: http://www.national.com/packaging/folders/mtc16.html
footprint MTC16_N (TSOP, 16-Leads, Body 5x4.4mm, Pitch 0.65mm, IPC Medium Density)
footprint MTC16_L (TSOP, 16-Leads, Body 5x4.4mm, Pitch 0.65mm, IPC High Density)
footprint MTC16_M (TSOP, 16-Leads, Body 5x4.4mm, Pitch 0.65mm, IPC Low Density)
pins: 1 VIN (power), 2 RAMP (in), 3 CS1 (in), 4 CS2 (in), 5 TIME (in), 6 REF (out), 7 VCC (power), 8 OUTA (out), 9 OUTB (out), 10 PGND (power), 11 AGND (power), 12 SS (in), 13 COMP, 14 RT (in), 15 SYNC (in), 16 UVLO (in)

## LM5025AMTC/NOPB
designator U?
Active Clamp Voltage Mode PWM Controller, 16-pin TSSOP, Pb-Free; PartNumber: LM5025AMTC/NOPB; Manufacturer: National Semiconductor; PackageTopMarking: NSUZXYTT*L5025A*MTC; PowerWise: Y; CompType: Switcher; DatasheetVersion: Dec-2004; PackageVersion: revD, Jun-2003; PackageReference: MTC16; PackageDescription: Molded TSSOP, Jedec, 5 x 4.4 x 0.9mm Body, 16 Lead, 0.65mm Pitch; RoHS: Y; PinCount: 16; High-Reliability: Y; Code_JEDEC: MO-153-AB; ComponentLink1Description: Manufacturer URL; ComponentLink1URL: http://www.national.com/; ComponentLink2Description: LM5025A Datasheet; ComponentLink2URL: http://www.national.com/ds/LM/LM5025A.pdf; ComponentLink3Description: LM5025A Web Page; ComponentLink3URL: http://www.national.com/pf/LM/LM5025A.html; ComponentLink4Description: MTC16 Package Page; ComponentLink4URL: http://www.national.com/packaging/folders/mtc16.html
footprint MTC16_N (TSOP, 16-Leads, Body 5x4.4mm, Pitch 0.65mm, IPC Medium Density)
footprint MTC16_L (TSOP, 16-Leads, Body 5x4.4mm, Pitch 0.65mm, IPC High Density)
footprint MTC16_M (TSOP, 16-Leads, Body 5x4.4mm, Pitch 0.65mm, IPC Low Density)
pins: 1 VIN (power), 2 RAMP (in), 3 CS1 (in), 4 CS2 (in), 5 TIME (in), 6 REF (out), 7 VCC (power), 8 OUTA (out), 9 OUTB (out), 10 PGND (power), 11 AGND (power), 12 SS (in), 13 COMP, 14 RT (in), 15 SYNC (in), 16 UVLO (in)

## LM5025ASD
designator U?
Active Clamp Voltage Mode PWM Controller, 16-pin LLP; PartNumber: LM5025ASD; Manufacturer: National Semiconductor; PackageTopMarking: NS*UZXYTT*5025ASD; PowerWise: Y; CompType: Switcher; DatasheetVersion: Dec-2004; PackageVersion: revA, May-2003; PackageReference: SDA16A; PackageDescription: LLP, Plastic, Dual, 5 x 5 x 0.8mm Body,16 Lead, 0.5mm Pitch, No Pullback; RoHS: N; PinCount: 16; High-Reliability: Y; ComponentLink1Description: Manufacturer URL; ComponentLink1URL: http://www.national.com/; ComponentLink2Description: LM5025A Datasheet; ComponentLink2URL: http://www.national.com/ds/LM/LM5025A.pdf; ComponentLink3Description: LM5025A Web Page; ComponentLink3URL: http://www.national.com/pf/LM/LM5025A.html; ComponentLink4Description: SDA16A Package Page; ComponentLink4URL: http://www.national.com/packaging/folders/sda16a.html
footprint SDA16A (SON, 16-Leads, Body 5x5mm, Pitch 0.5mm, NSC Recommended)
pins: 1 VIN (power), 2 RAMP (in), 3 CS1 (in), 4 CS2 (in), 5 TIME (in), 6 REF (out), 7 VCC (power), 8 OUTA (out), 9 OUTB (out), 10 PGND (power), 11 AGND (power), 12 SS (in), 13 COMP, 14 RT (in), 15 SYNC (in), 16 UVLO (in), 17 EP (power)

## LM5025ASD/NOPB
designator U?
Active Clamp Voltage Mode PWM Controller, 16-pin LLP, Pb-Free; PartNumber: LM5025ASD/NOPB; Manufacturer: National Semiconductor; PackageTopMarking: NS*UZXYTT*5025ASD; PowerWise: Y; CompType: Switcher; DatasheetVersion: Dec-2004; PackageVersion: revA, May-2003; PackageReference: SDA16A; PackageDescription: LLP, Plastic, Dual, 5 x 5 x 0.8mm Body,16 Lead, 0.5mm Pitch, No Pullback; RoHS: Y; PinCount: 16; High-Reliability: Y; ComponentLink1Description: Manufacturer URL; ComponentLink1URL: http://www.national.com/; ComponentLink2Description: LM5025A Datasheet; ComponentLink2URL: http://www.national.com/ds/LM/LM5025A.pdf; ComponentLink3Description: LM5025A Web Page; ComponentLink3URL: http://www.national.com/pf/LM/LM5025A.html; ComponentLink4Description: SDA16A Package Page; ComponentLink4URL: http://www.national.com/packaging/folders/sda16a.html
footprint SDA16A (SON, 16-Leads, Body 5x5mm, Pitch 0.5mm, NSC Recommended)
pins: 1 VIN (power), 2 RAMP (in), 3 CS1 (in), 4 CS2 (in), 5 TIME (in), 6 REF (out), 7 VCC (power), 8 OUTA (out), 9 OUTB (out), 10 PGND (power), 11 AGND (power), 12 SS (in), 13 COMP, 14 RT (in), 15 SYNC (in), 16 UVLO (in), 17 EP (power)

## LM5025BMTC/NOPB
designator U?
Active Clamp Voltage Mode PWM Controller, 16-pin TSSOP, Pb-Free; PartNumber: LM5025BMTC/NOPB; Manufacturer: National Semiconductor; PackageTopMarking: NSUZXYTT*L5025B*MTC; PowerWise: Y; CompType: Switcher; DatasheetVersion: Mar-2006; PackageVersion: revD, Jun-2003; PackageReference: MTC16; PackageDescription: Molded TSSOP, Jedec, 5 x 4.4 x 0.9mm Body, 16 Lead, 0.65mm Pitch; RoHS: Y; PinCount: 16; High-Reliability: Y; Code_JEDEC: MO-153-AB; ComponentLink1Description: Manufacturer URL; ComponentLink1URL: http://www.national.com/; ComponentLink2Description: LM5025B Datasheet; ComponentLink2URL: http://www.national.com/ds/LM/LM5025B.pdf; ComponentLink3Description: LM5025B Web Page; ComponentLink3URL: http://www.national.com/pf/LM/LM5025B.html; ComponentLink4Description: MTC16 Package Page; ComponentLink4URL: http://www.national.com/packaging/folders/mtc16.html
footprint MTC16_N (TSOP, 16-Leads, Body 5x4.4mm, Pitch 0.65mm, IPC Medium Density)
footprint MTC16_L (TSOP, 16-Leads, Body 5x4.4mm, Pitch 0.65mm, IPC High Density)
footprint MTC16_M (TSOP, 16-Leads, Body 5x4.4mm, Pitch 0.65mm, IPC Low Density)
pins: 1 VIN (power), 2 RAMP (in), 3 CS1 (in), 4 CS2 (in), 5 TIME (in), 6 REF (out), 7 VCC (power), 8 OUTA (out), 9 OUTB (out), 10 PGND (power), 11 AGND (power), 12 SS (in), 13 COMP, 14 RT (in), 15 SYNC (in), 16 UVLO (in)

## LM5025BMTCX/NOPB
designator U?
Active Clamp Voltage Mode PWM Controller, 16-pin TSSOP, Pb-Free; PartNumber: LM5025BMTCX/NOPB; Manufacturer: National Semiconductor; PackageTopMarking: NSUZXYTT*L5025B*MTC; PowerWise: Y; CompType: Switcher; DatasheetVersion: Mar-2006; PackageVersion: revD, Jun-2003; PackageReference: MTC16; PackageDescription: Molded TSSOP, Jedec, 5 x 4.4 x 0.9mm Body, 16 Lead, 0.65mm Pitch; RoHS: Y; PinCount: 16; High-Reliability: Y; Code_JEDEC: MO-153-AB; ComponentLink1Description: Manufacturer URL; ComponentLink1URL: http://www.national.com/; ComponentLink2Description: LM5025B Datasheet; ComponentLink2URL: http://www.national.com/ds/LM/LM5025B.pdf; ComponentLink3Description: LM5025B Web Page; ComponentLink3URL: http://www.national.com/pf/LM/LM5025B.html; ComponentLink4Description: MTC16 Package Page; ComponentLink4URL: http://www.national.com/packaging/folders/mtc16.html
footprint MTC16_N (TSOP, 16-Leads, Body 5x4.4mm, Pitch 0.65mm, IPC Medium Density)
footprint MTC16_L (TSOP, 16-Leads, Body 5x4.4mm, Pitch 0.65mm, IPC High Density)
footprint MTC16_M (TSOP, 16-Leads, Body 5x4.4mm, Pitch 0.65mm, IPC Low Density)
pins: 1 VIN (power), 2 RAMP (in), 3 CS1 (in), 4 CS2 (in), 5 TIME (in), 6 REF (out), 7 VCC (power), 8 OUTA (out), 9 OUTB (out), 10 PGND (power), 11 AGND (power), 12 SS (in), 13 COMP, 14 RT (in), 15 SYNC (in), 16 UVLO (in)

## LM5025BSD
designator U?
Active Clamp Voltage Mode PWM Controller, 16-pin LLP; PartNumber: LM5025BSD; Manufacturer: National Semiconductor; PackageTopMarking: NS*UZXYTT*5025BSD; PowerWise: Y; CompType: Switcher; DatasheetVersion: Mar-2006; PackageVersion: revA, May-2003; PackageReference: SDA16A; PackageDescription: LLP, Plastic, Dual, 5 x 5 x 0.8mm Body,16 Lead, 0.5mm Pitch, No Pullback; RoHS: N; PinCount: 16; High-Reliability: Y; ComponentLink1Description: Manufacturer URL; ComponentLink1URL: http://www.national.com/; ComponentLink2Description: LM5025B Datasheet; ComponentLink2URL: http://www.national.com/ds/LM/LM5025B.pdf; ComponentLink3Description: LM5025B Web Page; ComponentLink3URL: http://www.national.com/pf/LM/LM5025B.html; ComponentLink4Description: SDA16A Package Page; ComponentLink4URL: http://www.national.com/packaging/folders/sda16a.html
footprint SDA16A (SON, 16-Leads, Body 5x5mm, Pitch 0.5mm, NSC Recommended)
pins: 1 VIN (power), 2 RAMP (in), 3 CS1 (in), 4 CS2 (in), 5 TIME (in), 6 REF (out), 7 VCC (power), 8 OUTA (out), 9 OUTB (out), 10 PGND (power), 11 AGND (power), 12 SS (in), 13 COMP, 14 RT (in), 15 SYNC (in), 16 UVLO (in), 17 EP (power)

## LM5025BSDX
designator U?
Active Clamp Voltage Mode PWM Controller, 16-pin LLP; PartNumber: LM5025BSDX; Manufacturer: National Semiconductor; PackageTopMarking: NS*UZXYTT*5025BSD; PowerWise: Y; CompType: Switcher; DatasheetVersion: Mar-2006; PackageVersion: revA, May-2003; PackageReference: SDA16A; PackageDescription: LLP, Plastic, Dual, 5 x 5 x 0.8mm Body,16 Lead, 0.5mm Pitch, No Pullback; RoHS: N; PinCount: 16; High-Reliability: Y; ComponentLink1Description: Manufacturer URL; ComponentLink1URL: http://www.national.com/; ComponentLink2Description: LM5025B Datasheet; ComponentLink2URL: http://www.national.com/ds/LM/LM5025B.pdf; ComponentLink3Description: LM5025B Web Page; ComponentLink3URL: http://www.national.com/pf/LM/LM5025B.html; ComponentLink4Description: SDA16A Package Page; ComponentLink4URL: http://www.national.com/packaging/folders/sda16a.html
footprint SDA16A (SON, 16-Leads, Body 5x5mm, Pitch 0.5mm, NSC Recommended)
pins: 1 VIN (power), 2 RAMP (in), 3 CS1 (in), 4 CS2 (in), 5 TIME (in), 6 REF (out), 7 VCC (power), 8 OUTA (out), 9 OUTB (out), 10 PGND (power), 11 AGND (power), 12 SS (in), 13 COMP, 14 RT (in), 15 SYNC (in), 16 UVLO (in), 17 EP (power)

## LM5025CMTC
designator U?
Active Clamp Voltage Mode PWM Controller, 16-pin TSSOP; PartNumber: LM5025CMTC; Manufacturer: National Semiconductor; PackageTopMarking: NSUZXYTT*L5025C*MTC; PowerWise: Y; CompType: Switcher; DatasheetVersion: Sep-2008; PackageVersion: revD, Jun-2003; PackageReference: MTC16; PackageDescription: Molded TSSOP, Jedec, 5 x 4.4 x 0.9mm Body, 16 Lead, 0.65mm Pitch; RoHS: Y; PinCount: 16; High-Reliability: Y; Code_JEDEC: MO-153-AB; ComponentLink1Description: Manufacturer URL; ComponentLink1URL: http://www.national.com/; ComponentLink2Description: LM5025C Datasheet; ComponentLink2URL: http://www.national.com/ds/LM/LM5025C.pdf; ComponentLink3Description: LM5025C Web Page; ComponentLink3URL: http://www.national.com/pf/LM/LM5025C.html; ComponentLink4Description: MTC16 Package Page; ComponentLink4URL: http://www.national.com/packaging/folders/mtc16.html
footprint MTC16_N (TSOP, 16-Leads, Body 5x4.4mm, Pitch 0.65mm, IPC Medium Density)
footprint MTC16_L (TSOP, 16-Leads, Body 5x4.4mm, Pitch 0.65mm, IPC High Density)
footprint MTC16_M (TSOP, 16-Leads, Body 5x4.4mm, Pitch 0.65mm, IPC Low Density)
pins: 1 VIN (power), 2 RAMP, 3 CS1 (in), 4 CS2 (in), 5 TIME, 6 REF (power), 7 VCC (power), 8 OUT_A (power), 9 OUT_B (power), 10 PGND (power), 11 AGND (power), 12 SS (in), 13 COMP, 14 RT (in), 15 SYNC, 16 UVLO

## LM5025CMTC/NOPB
designator U?
Active Clamp Voltage Mode PWM Controller, 16-pin TSSOP, Pb-Free; PartNumber: LM5025CMTC/NOPB; Manufacturer: National Semiconductor; PackageTopMarking: NSUZXYTT*L5025C*MTC; PowerWise: Y; CompType: Switcher; DatasheetVersion: Sep-2008; PackageVersion: revD, Jun-2003; PackageReference: MTC16; PackageDescription: Molded TSSOP, Jedec, 5 x 4.4 x 0.9mm Body, 16 Lead, 0.65mm Pitch; RoHS: Y; PinCount: 16; High-Reliability: Y; Code_JEDEC: MO-153-AB; ComponentLink1Description: Manufacturer URL; ComponentLink1URL: http://www.national.com/; ComponentLink2Description: LM5025C Datasheet; ComponentLink2URL: http://www.national.com/ds/LM/LM5025C.pdf; ComponentLink3Description: LM5025C Web Page; ComponentLink3URL: http://www.national.com/pf/LM/LM5025C.html; ComponentLink4Description: MTC16 Package Page; ComponentLink4URL: http://www.national.com/packaging/folders/mtc16.html
footprint MTC16_N (TSOP, 16-Leads, Body 5x4.4mm, Pitch 0.65mm, IPC Medium Density)
footprint MTC16_L (TSOP, 16-Leads, Body 5x4.4mm, Pitch 0.65mm, IPC High Density)
footprint MTC16_M (TSOP, 16-Leads, Body 5x4.4mm, Pitch 0.65mm, IPC Low Density)
pins: 1 VIN (power), 2 RAMP, 3 CS1 (in), 4 CS2 (in), 5 TIME, 6 REF (power), 7 VCC (power), 8 OUT_A (power), 9 OUT_B (power), 10 PGND (power), 11 AGND (power), 12 SS (in), 13 COMP, 14 RT (in), 15 SYNC, 16 UVLO

## LM5025CMTCE/NOPB
designator U?
Active Clamp Voltage Mode PWM Controller, 16-pin TSSOP, Pb-Free; PartNumber: LM5025CMTCE/NOPB; Manufacturer: National Semiconductor; PackageTopMarking: NSUZXYTT*L5025C*MTC; PowerWise: N; CompType: Switcher; High-Reliability: Y; DatasheetVersion: Sep-2008; PackageVersion: revD, Jun-2003; PackageReference: MTC16; PackageDescription: Molded TSSOP, Jedec, 5 x 4.4 x 0.9mm Body, 16 Lead, 0.65mm Pitch; RoHS: Y; PinCount: 16; Code_JEDEC: MO-153-AB; ComponentLink1Description: Manufacturer URL; ComponentLink1URL: http://www.national.com/; ComponentLink2Description: LM5025C Datasheet; ComponentLink2URL: http://www.national.com/ds/LM/LM5025C.pdf; ComponentLink3Description: LM5025C Web Page; ComponentLink3URL: http://www.national.com/pf/LM/LM5025C.html; ComponentLink4Description: MTC16 Package Page; ComponentLink4URL: http://www.national.com/packaging/folders/mtc16.html
footprint MTC16_N (TSOP, 16-Leads, Body 5x4.4mm, Pitch 0.65mm, IPC Medium Density)
footprint MTC16_L (TSOP, 16-Leads, Body 5x4.4mm, Pitch 0.65mm, IPC High Density)
footprint MTC16_M (TSOP, 16-Leads, Body 5x4.4mm, Pitch 0.65mm, IPC Low Density)
pins: 1 VIN (power), 2 RAMP, 3 CS1 (in), 4 CS2 (in), 5 TIME, 6 REF (power), 7 VCC (power), 8 OUT_A (power), 9 OUT_B (power), 10 PGND (power), 11 AGND (power), 12 SS (in), 13 COMP, 14 RT (in), 15 SYNC, 16 UVLO

## LM5025CMTCX/NOPB
designator U?
Active Clamp Voltage Mode PWM Controller, 16-pin TSSOP, Pb-Free; PartNumber: LM5025CMTCX/NOPB; Manufacturer: National Semiconductor; PackageTopMarking: NSUZXYTT*L5025C*MTC; PowerWise: Y; CompType: Switcher; DatasheetVersion: Sep-2008; PackageVersion: revD, Jun-2003; PackageReference: MTC16; PackageDescription: Molded TSSOP, Jedec, 5 x 4.4 x 0.9mm Body, 16 Lead, 0.65mm Pitch; RoHS: Y; PinCount: 16; High-Reliability: Y; Code_JEDEC: MO-153-AB; ComponentLink1Description: Manufacturer URL; ComponentLink1URL: http://www.national.com/; ComponentLink2Description: LM5025C Datasheet; ComponentLink2URL: http://www.national.com/ds/LM/LM5025C.pdf; ComponentLink3Description: LM5025C Web Page; ComponentLink3URL: http://www.national.com/pf/LM/LM5025C.html; ComponentLink4Description: MTC16 Package Page; ComponentLink4URL: http://www.national.com/packaging/folders/mtc16.html
footprint MTC16_N (TSOP, 16-Leads, Body 5x4.4mm, Pitch 0.65mm, IPC Medium Density)
footprint MTC16_L (TSOP, 16-Leads, Body 5x4.4mm, Pitch 0.65mm, IPC High Density)
footprint MTC16_M (TSOP, 16-Leads, Body 5x4.4mm, Pitch 0.65mm, IPC Low Density)
pins: 1 VIN (power), 2 RAMP, 3 CS1 (in), 4 CS2 (in), 5 TIME, 6 REF (power), 7 VCC (power), 8 OUT_A (power), 9 OUT_B (power), 10 PGND (power), 11 AGND (power), 12 SS (in), 13 COMP, 14 RT (in), 15 SYNC, 16 UVLO

## LM5025MTC
designator U?
Active Clamp Voltage Mode PWM Controller, 16-pin TSSOP; PartNumber: LM5025MTC; Manufacturer: National Semiconductor; PackageTopMarking: NSZXYTT*LM5025*MTC; PowerWise: Y; CompType: Switcher; DatasheetVersion: Mar-2004; PackageVersion: revD, Jun-2003; PackageReference: MTC16; PackageDescription: Molded TSSOP, Jedec, 5 x 4.4 x 0.9mm Body, 16 Lead, 0.65mm Pitch; RoHS: N; PinCount: 16; High-Reliability: Y; Code_JEDEC: MO-153-AB; ComponentLink1Description: Manufacturer URL; ComponentLink1URL: http://www.national.com/; ComponentLink2Description: LM5025 Datasheet; ComponentLink2URL: http://www.national.com/ds/LM/LM5025.pdf; ComponentLink3Description: LM5025 Web Page; ComponentLink3URL: http://www.national.com/pf/LM/LM5025.html; ComponentLink4Description: MTC16 Package Page; ComponentLink4URL: http://www.national.com/packaging/folders/mtc16.html
footprint MTC16_N (TSOP, 16-Leads, Body 5x4.4mm, Pitch 0.65mm, IPC Medium Density)
footprint MTC16_L (TSOP, 16-Leads, Body 5x4.4mm, Pitch 0.65mm, IPC High Density)
footprint MTC16_M (TSOP, 16-Leads, Body 5x4.4mm, Pitch 0.65mm, IPC Low Density)
pins: 1 VIN (power), 2 RAMP (in), 3 CS1 (in), 4 CS2 (in), 5 TIME (in), 6 REF (out), 7 VCC (power), 8 OUTA (out), 9 OUTB (out), 10 PGND (power), 11 AGND (power), 12 SS (in), 13 COMP, 14 RT (in), 15 SYNC (in), 16 UVLO (in)

## LM5025MTC/NOPB
designator U?
Active Clamp Voltage Mode PWM Controller, 16-pin TSSOP, Pb-Free; PartNumber: LM5025MTC/NOPB; Manufacturer: National Semiconductor; PackageTopMarking: NSZXYTT*LM5025*MTC; PowerWise: Y; CompType: Switcher; DatasheetVersion: Mar-2004; PackageVersion: revD, Jun-2003; PackageReference: MTC16; PackageDescription: Molded TSSOP, Jedec, 5 x 4.4 x 0.9mm Body, 16 Lead, 0.65mm Pitch; RoHS: Y; PinCount: 16; High-Reliability: Y; Code_JEDEC: MO-153-AB; ComponentLink1Description: Manufacturer URL; ComponentLink1URL: http://www.national.com/; ComponentLink2Description: LM5025 Datasheet; ComponentLink2URL: http://www.national.com/ds/LM/LM5025.pdf; ComponentLink3Description: LM5025 Web Page; ComponentLink3URL: http://www.national.com/pf/LM/LM5025.html; ComponentLink4Description: MTC16 Package Page; ComponentLink4URL: http://www.national.com/packaging/folders/mtc16.html
footprint MTC16_N (TSOP, 16-Leads, Body 5x4.4mm, Pitch 0.65mm, IPC Medium Density)
footprint MTC16_L (TSOP, 16-Leads, Body 5x4.4mm, Pitch 0.65mm, IPC High Density)
footprint MTC16_M (TSOP, 16-Leads, Body 5x4.4mm, Pitch 0.65mm, IPC Low Density)
pins: 1 VIN (power), 2 RAMP (in), 3 CS1 (in), 4 CS2 (in), 5 TIME (in), 6 REF (out), 7 VCC (power), 8 OUTA (out), 9 OUTB (out), 10 PGND (power), 11 AGND (power), 12 SS (in), 13 COMP, 14 RT (in), 15 SYNC (in), 16 UVLO (in)